# Altium schematic symbol library 1286AS-H-2R2M.SchLib: 2 symbols
Pins are listed as number, name and electrical type; pins without a type are passive.

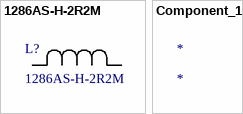
[diagram p0: symbols 1286AS-H-2R2M to Component_1]

## 1286AS-H-2R2M
designator L?
No Description Available; Mfr_Name: Toko; Type: DEV; Copyright: Copyright (C) 2022 Ultra Librarian. All rights reserved.; Manufacturer_Part_Number: 1286AS-H-2R2M; RefDes: RefDes
footprint IND_S-H-2R2M_TOK
pins: 1, 2

## Component_1
designator *